# Altium schematic symbol library curr-mon_0.Schlib: 1 symbol
Pins are listed as number, name and electrical type; pins without a type are passive.

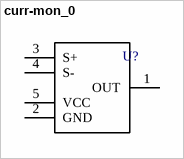
[diagram p0: symbol curr-mon_0]

## curr-mon_0
designator U?  (value not drawn)
High Side Current Monitor, 5 pin
pins: 1 OUT, 2 GND, 3 S+, 4 S-, 5 VCC